# Altium integrated library WE-MAPI (rev22a).IntLib: 137 symbols (part 2 of 2)
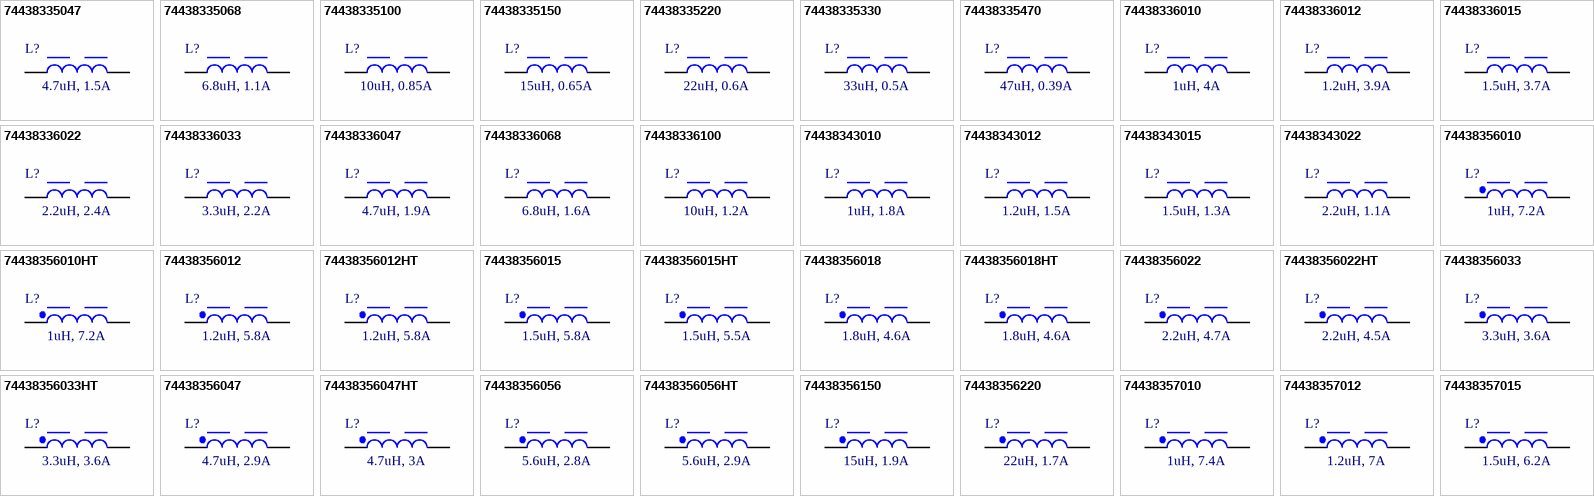
[diagram p4: symbols 74438335047 to 74438357015]

## 74438356033HT
designator L?, comment 3.3uH, 3.6A
WE-MAPI SMT Power Inductor, size 4020, 3.3uH, 3.6A; Manufacturer: Wurth Elektronik; Manufacturer Part Number: 74438356033HT; DC Resistance typ.: 45mOhm; DC Resistance max.: 51.8mOhm; Self Resonant Frequency: 25.5MHz; Saturation Current: 4.8A; ComponentLink1Description: Manufacturer; ComponentLink1URL: http://www.we-online.de; ComponentLink2Description: Datasheet; ComponentLink2URL: https://www.we-online.com/catalog/datasheet/74438356033HT.pdf; Mounting Technology: SMT; Operating Temperature: -55 to +150degC; Packaging: Tape and Reel; Size: 4020; Inductance: 3.3uH; Rated Current: 3.6A; Height: 2.1mm; Length: 4.1mm; Width: 4.1mm
footprint WE-MAPI_4020
pins: 1, 2

## 74438356047
designator L?, comment 4.7uH, 2.9A
WE-MAPI SMT Power Inductor, size 4020, 4.7uH, 2.9A; Manufacturer: Wurth Elektronik; Manufacturer Part Number: 74438356047; DC Resistance typ.: 63mOhm; DC Resistance max.: 76mOhm; Self Resonant Frequency: 22MHz; Saturation Current: 4.7A; ComponentLink1Description: Manufacturer; ComponentLink1URL: http://www.we-online.de; ComponentLink2Description: Datasheet; ComponentLink2URL: https://www.we-online.com/catalog/datasheet/74438356047.pdf; Mounting Technology: SMT; Operating Temperature: -40 to +125degC; Packaging: Tape and Reel; Size: 4020; Inductance: 4.7uH; Rated Current: 2.9A; Height: 2.1mm; Length: 4.1mm; Width: 4.1mm
footprint WE-MAPI_4020
pins: 1, 2

## 74438356047HT
designator L?, comment 4.7uH, 3A
WE-MAPI SMT Power Inductor, size 4020, 4.7uH, 3A; Manufacturer: Wurth Elektronik; Manufacturer Part Number: 74438356047HT; DC Resistance typ.: 65mOhm; DC Resistance max.: 74.8mOhm; Self Resonant Frequency: 18MHz; Saturation Current: 3.7A; ComponentLink1Description: Manufacturer; ComponentLink1URL: http://www.we-online.de; ComponentLink2Description: Datasheet; ComponentLink2URL: https://www.we-online.com/catalog/datasheet/74438356047HT.pdf; Mounting Technology: SMT; Operating Temperature: -55 to +150degC; Packaging: Tape and Reel; Size: 4020; Inductance: 4.7uH; Rated Current: 3A; Height: 2.1mm; Length: 4.1mm; Width: 4.1mm
footprint WE-MAPI_4020
pins: 1, 2

## 74438356056
designator L?, comment 5.6uH, 2.8A
WE-MAPI SMT Power Inductor, size 4020, 5.6uH, 2.8A; Manufacturer: Wurth Elektronik; Manufacturer Part Number: 74438356056; DC Resistance typ.: 68mOhm; DC Resistance max.: 81mOhm; Self Resonant Frequency: 20MHz; Saturation Current: 4.6A; ComponentLink1Description: Manufacturer; ComponentLink1URL: http://www.we-online.de; ComponentLink2Description: Datasheet; ComponentLink2URL: https://www.we-online.com/catalog/datasheet/74438356056.pdf; Mounting Technology: SMT; Operating Temperature: -40 to +125degC; Packaging: Tape and Reel; Size: 4020; Inductance: 5.6uH; Rated Current: 2.8A; Height: 2.1mm; Length: 4.1mm; Width: 4.1mm
footprint WE-MAPI_4020
pins: 1, 2

## 74438356056HT
designator L?, comment 5.6uH, 2.9A
WE-MAPI SMT Power Inductor, size 4020, 5.6uH, 2.9A; Manufacturer: Wurth Elektronik; Manufacturer Part Number: 74438356056HT; DC Resistance typ.: 70mOhm; DC Resistance max.: 80.5mOhm; Self Resonant Frequency: 17MHz; Saturation Current: 3.5A; ComponentLink1Description: Manufacturer; ComponentLink1URL: http://www.we-online.de; ComponentLink2Description: Datasheet; ComponentLink2URL: https://www.we-online.com/catalog/datasheet/74438356056HT.pdf; Mounting Technology: SMT; Operating Temperature: -55 to +150degC; Packaging: Tape and Reel; Size: 4020; Inductance: 5.6uH; Rated Current: 2.9A; Height: 2.1mm; Length: 4.1mm; Width: 4.1mm
footprint WE-MAPI_4020
pins: 1, 2

## 74438356150
designator L?, comment 15uH, 1.9A
WE-MAPI SMT Power Inductor, size 4020, 15uH, 1.9A; Manufacturer: Wurth Elektronik; Manufacturer Part Number: 74438356150; DC Resistance typ.: 200mOhm; DC Resistance max.: 230mOhm; Self Resonant Frequency: 14MHz; Saturation Current: 2.1A; ComponentLink1Description: Manufacturer; ComponentLink1URL: http://www.we-online.de; ComponentLink2Description: Datasheet; ComponentLink2URL: https://www.we-online.com/catalog/datasheet/74438356150.pdf; Mounting Technology: SMT; Operating Temperature: -40 to +125degC; Packaging: Tape and Reel; Size: 4020; Inductance: 15uH; Rated Current: 1.9A; Height: 2.1mm; Length: 4.1mm; Width: 4.1mm
footprint WE-MAPI_4020
pins: 1, 2

## 74438356220
designator L?, comment 22uH, 1.7A
WE-MAPI SMT Power Inductor, size 4020, 22uH, 1.7A; Manufacturer: Wurth Elektronik; Manufacturer Part Number: 74438356220; DC Resistance typ.: 250mOhm; DC Resistance max.: 280mOhm; Self Resonant Frequency: 11MHz; Saturation Current: 1.85A; ComponentLink1Description: Manufacturer; ComponentLink1URL: http://www.we-online.de; ComponentLink2Description: Datasheet; ComponentLink2URL: https://www.we-online.com/catalog/datasheet/74438356220.pdf; Mounting Technology: SMT; Operating Temperature: -40 to +125degC; Packaging: Tape and Reel; Size: 4020; Inductance: 22uH; Rated Current: 1.7A; Height: 2.1mm; Length: 4.1mm; Width: 4.1mm
footprint WE-MAPI_4020
pins: 1, 2

## 74438357010
designator L?, comment 1uH, 7.4A
WE-MAPI SMT Power Inductor, size 4030, 1uH, 7.4A; Manufacturer: Wurth Elektronik; Manufacturer Part Number: 74438357010; DC Resistance typ.: 11.6mOhm; DC Resistance max.: 13.5mOhm; Self Resonant Frequency: 59MHz; Saturation Current: 9.6A; ComponentLink1Description: Manufacturer; ComponentLink1URL: http://www.we-online.de; ComponentLink2Description: Datasheet; ComponentLink2URL: https://www.we-online.com/catalog/datasheet/74438357010.pdf; Mounting Technology: SMT; Operating Temperature: -40 to +125degC; Packaging: Tape and Reel; Size: 4030; Inductance: 1uH; Rated Current: 7.4A; Height: 3.1mm; Length: 4.1mm; Width: 4.1mm
footprint WE-MAPI_4030
pins: 1, 2

## 74438357012
designator L?, comment 1.2uH, 7A
WE-MAPI SMT Power Inductor, size 4030, 1.2uH, 7A; Manufacturer: Wurth Elektronik; Manufacturer Part Number: 74438357012; DC Resistance typ.: 13.4mOhm; DC Resistance max.: 15.5mOhm; Self Resonant Frequency: 51MHz; Saturation Current: 8.8A; ComponentLink1Description: Manufacturer; ComponentLink1URL: http://www.we-online.de; ComponentLink2Description: Datasheet; ComponentLink2URL: https://www.we-online.com/catalog/datasheet/74438357012.pdf; Mounting Technology: SMT; Operating Temperature: -40 to +125degC; Packaging: Tape and Reel; Size: 4030; Inductance: 1.2uH; Rated Current: 7A; Height: 3.1mm; Length: 4.1mm; Width: 4.1mm
footprint WE-MAPI_4030
pins: 1, 2

## 74438357015
designator L?, comment 1.5uH, 6.2A
WE-MAPI SMT Power Inductor, size 4030, 1.5uH, 6.2A; Manufacturer: Wurth Elektronik; Manufacturer Part Number: 74438357015; DC Resistance typ.: 17.1mOhm; DC Resistance max.: 20mOhm; Self Resonant Frequency: 48MHz; Saturation Current: 8.5A; ComponentLink1Description: Manufacturer; ComponentLink1URL: http://www.we-online.de; ComponentLink2Description: Datasheet; ComponentLink2URL: https://www.we-online.com/catalog/datasheet/74438357015.pdf; Mounting Technology: SMT; Operating Temperature: -40 to +125degC; Packaging: Tape and Reel; Size: 4030; Inductance: 1.5uH; Rated Current: 6.2A; Height: 3.1mm; Length: 4.1mm; Width: 4.1mm
footprint WE-MAPI_4030
pins: 1, 2

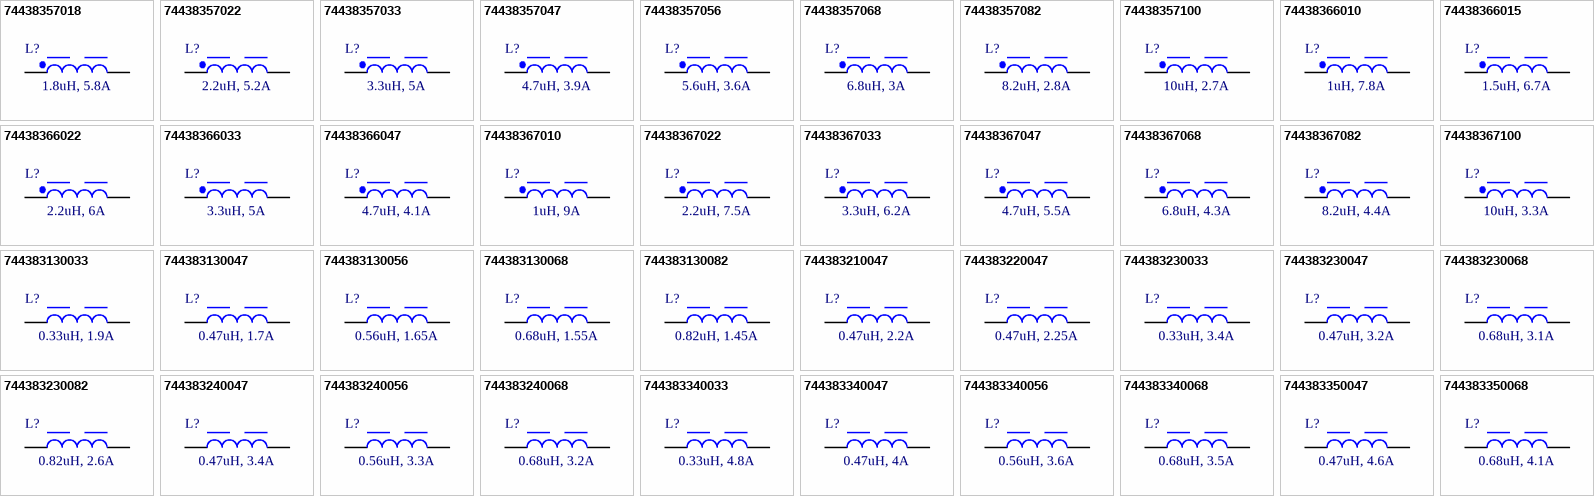
[diagram p2: symbols 74438357018 to 744383350068]

## 74438357018
designator L?, comment 1.8uH, 5.8A
WE-MAPI SMT Power Inductor, size 4030, 1.8uH, 5.8A; Manufacturer: Wurth Elektronik; Manufacturer Part Number: 74438357018; DC Resistance typ.: 18mOhm; DC Resistance max.: 21mOhm; Self Resonant Frequency: 42MHz; Saturation Current: 8A; ComponentLink1Description: Manufacturer; ComponentLink1URL: http://www.we-online.de; ComponentLink2Description: Datasheet; ComponentLink2URL: https://www.we-online.com/catalog/datasheet/74438357018.pdf; Mounting Technology: SMT; Operating Temperature: -40 to +125degC; Packaging: Tape and Reel; Size: 4030; Inductance: 1.8uH; Rated Current: 5.8A; Height: 3.1mm; Length: 4.1mm; Width: 4.1mm
footprint WE-MAPI_4030
pins: 1, 2

## 74438357022
designator L?, comment 2.2uH, 5.2A
WE-MAPI SMT Power Inductor, size 4030, 2.2uH, 5.2A; Manufacturer: Wurth Elektronik; Manufacturer Part Number: 74438357022; DC Resistance typ.: 22mOhm; DC Resistance max.: 26mOhm; Self Resonant Frequency: 35MHz; Saturation Current: 7A; ComponentLink1Description: Manufacturer; ComponentLink1URL: http://www.we-online.de; ComponentLink2Description: Datasheet; ComponentLink2URL: https://www.we-online.com/catalog/datasheet/74438357022.pdf; Mounting Technology: SMT; Operating Temperature: -40 to +125degC; Packaging: Tape and Reel; Size: 4030; Inductance: 2.2uH; Rated Current: 5.2A; Height: 3.1mm; Length: 4.1mm; Width: 4.1mm
footprint WE-MAPI_4030
pins: 1, 2

## 74438357033
designator L?, comment 3.3uH, 5A
WE-MAPI SMT Power Inductor, size 4030, 3.3uH, 5A; Manufacturer: Wurth Elektronik; Manufacturer Part Number: 74438357033; DC Resistance typ.: 29mOhm; DC Resistance max.: 33.5mOhm; Self Resonant Frequency: 26MHz; ComponentLink1Description: Manufacturer; ComponentLink1URL: http://www.we-online.de; ComponentLink2Description: Datasheet; ComponentLink2URL: https://www.we-online.com/catalog/datasheet/74438357033.pdf; Mounting Technology: SMT; Operating Temperature: -40 to +125degC; Packaging: Tape and Reel; Size: 4030; Inductance: 3.3uH; Rated Current: 5A; Saturation Current: 5A; Height: 3.1mm; Length: 4.1mm; Width: 4.1mm
footprint WE-MAPI_4030
pins: 1, 2

## 74438357047
designator L?, comment 4.7uH, 3.9A
WE-MAPI SMT Power Inductor, size 4030, 4.7uH, 3.9A; Manufacturer: Wurth Elektronik; Manufacturer Part Number: 74438357047; DC Resistance typ.: 39.9mOhm; DC Resistance max.: 44mOhm; Self Resonant Frequency: 24MHz; Saturation Current: 6.4A; ComponentLink1Description: Manufacturer; ComponentLink1URL: http://www.we-online.de; ComponentLink2Description: Datasheet; ComponentLink2URL: https://www.we-online.com/catalog/datasheet/74438357047.pdf; Mounting Technology: SMT; Operating Temperature: -40 to +125degC; Packaging: Tape and Reel; Size: 4030; Inductance: 4.7uH; Rated Current: 3.9A; Height: 3.1mm; Length: 4.1mm; Width: 4.1mm
footprint WE-MAPI_4030
pins: 1, 2

## 74438357056
designator L?, comment 5.6uH, 3.6A
WE-MAPI SMT Power Inductor, size 4030, 5.6uH, 3.6A; Manufacturer: Wurth Elektronik; Manufacturer Part Number: 74438357056; DC Resistance typ.: 46.5mOhm; DC Resistance max.: 51mOhm; Self Resonant Frequency: 21MHz; Saturation Current: 6A; ComponentLink1Description: Manufacturer; ComponentLink1URL: http://www.we-online.de; ComponentLink2Description: Datasheet; ComponentLink2URL: https://www.we-online.com/catalog/datasheet/74438357056.pdf; Mounting Technology: SMT; Operating Temperature: -40 to +125degC; Packaging: Tape and Reel; Size: 4030; Inductance: 5.6uH; Rated Current: 3.6A; Height: 3.1mm; Length: 4.1mm; Width: 4.1mm
footprint WE-MAPI_4030
pins: 1, 2

## 74438357068
designator L?, comment 6.8uH, 3A
WE-MAPI SMT Power Inductor, size 4030, 6.8uH, 3A; Manufacturer: Wurth Elektronik; Manufacturer Part Number: 74438357068; DC Resistance typ.: 69.4mOhm; DC Resistance max.: 74mOhm; Self Resonant Frequency: 19.5MHz; Saturation Current: 5.5A; ComponentLink1Description: Manufacturer; ComponentLink1URL: http://www.we-online.de; ComponentLink2Description: Datasheet; ComponentLink2URL: https://www.we-online.com/catalog/datasheet/74438357068.pdf; Mounting Technology: SMT; Operating Temperature: -40 to +125degC; Packaging: Tape and Reel; Size: 4030; Inductance: 6.8uH; Rated Current: 3A; Height: 3.1mm; Length: 4.1mm; Width: 4.1mm
footprint WE-MAPI_4030
pins: 1, 2

## 74438357082
designator L?, comment 8.2uH, 2.8A
WE-MAPI SMT Power Inductor, size 4030, 8.2uH, 2.8A; Manufacturer: Wurth Elektronik; Manufacturer Part Number: 74438357082; DC Resistance typ.: 81mOhm; DC Resistance max.: 86mOhm; Self Resonant Frequency: 17MHz; Saturation Current: 5.2A; ComponentLink1Description: Manufacturer; ComponentLink1URL: http://www.we-online.de; ComponentLink2Description: Datasheet; ComponentLink2URL: https://www.we-online.com/catalog/datasheet/74438357082.pdf; Mounting Technology: SMT; Operating Temperature: -40 to +125degC; Packaging: Tape and Reel; Size: 4030; Inductance: 8.2uH; Rated Current: 2.8A; Height: 3.1mm; Length: 4.1mm; Width: 4.1mm
footprint WE-MAPI_4030
pins: 1, 2

## 74438357100
designator L?, comment 10uH, 2.7A
WE-MAPI SMT Power Inductor, size 4030, 10uH, 2.7A; Manufacturer: Wurth Elektronik; Manufacturer Part Number: 74438357100; DC Resistance typ.: 100.8mOhm; DC Resistance max.: 110mOhm; Self Resonant Frequency: 15MHz; Saturation Current: 4.6A; ComponentLink1Description: Manufacturer; ComponentLink1URL: http://www.we-online.de; ComponentLink2Description: Datasheet; ComponentLink2URL: https://www.we-online.com/catalog/datasheet/74438357100.pdf; Mounting Technology: SMT; Operating Temperature: -40 to +125degC; Packaging: Tape and Reel; Size: 4030; Inductance: 10uH; Rated Current: 2.7A; Height: 3.1mm; Length: 4.1mm; Width: 4.1mm
footprint WE-MAPI_4030
pins: 1, 2

## 74438366010
designator L?, comment 1uH, 7.8A
WE-MAPI SMT Power Inductor, size 5020, 1uH, 7.8A; Manufacturer: Wurth Elektronik; Manufacturer Part Number: 74438366010; DC Resistance typ.: 11.4mOhm; DC Resistance max.: 13.1mOhm; Self Resonant Frequency: 50MHz; Saturation Current: 10A; ComponentLink1Description: Manufacturer; ComponentLink1URL: http://www.we-online.de; ComponentLink2Description: Datasheet; ComponentLink2URL: https://www.we-online.com/catalog/datasheet/74438366010.pdf; Mounting Technology: SMT; Operating Temperature: -40 to +125degC; Packaging: Tape and Reel; Size: 5020; Inductance: 1uH; Rated Current: 7.8A; Height: 2.1mm; Length: 5.4mm; Width: 5.4mm
footprint WE-MAPI_5020
pins: 1, 2

## 74438366015
designator L?, comment 1.5uH, 6.7A
WE-MAPI SMT Power Inductor, size 5020, 1.5uH, 6.7A; Manufacturer: Wurth Elektronik; Manufacturer Part Number: 74438366015; DC Resistance typ.: 18.5mOhm; DC Resistance max.: 21.3mOhm; Self Resonant Frequency: 35MHz; Saturation Current: 9.5A; ComponentLink1Description: Manufacturer; ComponentLink1URL: http://www.we-online.de; ComponentLink2Description: Datasheet; ComponentLink2URL: https://www.we-online.com/catalog/datasheet/74438366015.pdf; Mounting Technology: SMT; Operating Temperature: -40 to +125degC; Packaging: Tape and Reel; Size: 5020; Inductance: 1.5uH; Rated Current: 6.7A; Height: 2.1mm; Length: 5.4mm; Width: 5.4mm
footprint WE-MAPI_5020
pins: 1, 2

## 74438366022
designator L?, comment 2.2uH, 6A
WE-MAPI SMT Power Inductor, size 5020, 2.2uH, 6A; Manufacturer: Wurth Elektronik; Manufacturer Part Number: 74438366022; DC Resistance typ.: 23.7mOhm; DC Resistance max.: 27.3mOhm; Self Resonant Frequency: 31.5MHz; Saturation Current: 9A; ComponentLink1Description: Manufacturer; ComponentLink1URL: http://www.we-online.de; ComponentLink2Description: Datasheet; ComponentLink2URL: https://www.we-online.com/catalog/datasheet/74438366022.pdf; Mounting Technology: SMT; Operating Temperature: -40 to +125degC; Packaging: Tape and Reel; Size: 5020; Inductance: 2.2uH; Rated Current: 6A; Height: 2.1mm; Length: 5.4mm; Width: 5.4mm
footprint WE-MAPI_5020
pins: 1, 2

## 74438366033
designator L?, comment 3.3uH, 5A
WE-MAPI SMT Power Inductor, size 5020, 3.3uH, 5A; Manufacturer: Wurth Elektronik; Manufacturer Part Number: 74438366033; DC Resistance typ.: 33.4mOhm; DC Resistance max.: 38.4mOhm; Self Resonant Frequency: 23MHz; Saturation Current: 7A; ComponentLink1Description: Manufacturer; ComponentLink1URL: http://www.we-online.de; ComponentLink2Description: Datasheet; ComponentLink2URL: https://www.we-online.com/catalog/datasheet/74438366033.pdf; Mounting Technology: SMT; Operating Temperature: -40 to +125degC; Packaging: Tape and Reel; Size: 5020; Inductance: 3.3uH; Rated Current: 5A; Height: 2.1mm; Length: 5.4mm; Width: 5.4mm
footprint WE-MAPI_5020
pins: 1, 2

## 74438366047
designator L?, comment 4.7uH, 4.1A
WE-MAPI SMT Power Inductor, size 5020, 4.7uH, 4.1A; Manufacturer: Wurth Elektronik; Manufacturer Part Number: 74438366047; DC Resistance typ.: 54.8mOhm; DC Resistance max.: 63mOhm; Self Resonant Frequency: 20MHz; Saturation Current: 5.5A; ComponentLink1Description: Manufacturer; ComponentLink1URL: http://www.we-online.de; ComponentLink2Description: Datasheet; ComponentLink2URL: https://www.we-online.com/catalog/datasheet/74438366047.pdf; Mounting Technology: SMT; Operating Temperature: -40 to +125degC; Packaging: Tape and Reel; Size: 5020; Inductance: 4.7uH; Rated Current: 4.1A; Height: 2.1mm; Length: 5.4mm; Width: 5.4mm
footprint WE-MAPI_5020
pins: 1, 2

## 74438367010
designator L?, comment 1uH, 9A
WE-MAPI SMT Power Inductor, size 5030, 1uH, 9A; Manufacturer: Wurth Elektronik; Manufacturer Part Number: 74438367010; DC Resistance typ.: 10mOhm; DC Resistance max.: 11.5mOhm; Self Resonant Frequency: 44.5MHz; Saturation Current: 9.6A; ComponentLink1Description: Manufacturer; ComponentLink1URL: http://www.we-online.de; ComponentLink2Description: Datasheet; ComponentLink2URL: https://www.we-online.com/catalog/datasheet/74438367010.pdf; Mounting Technology: SMT; Operating Temperature: -40 to +125degC; Packaging: Tape and Reel; Size: 5030; Inductance: 1uH; Rated Current: 9A; Height: 3.1mm; Length: 5.4mm; Width: 5.4mm
footprint WE-MAPI_5030
pins: 1, 2

## 74438367022
designator L?, comment 2.2uH, 7.5A
WE-MAPI SMT Power Inductor, size 5030, 2.2uH, 7.5A; Manufacturer: Wurth Elektronik; Manufacturer Part Number: 74438367022; DC Resistance typ.: 14mOhm; DC Resistance max.: 16.1mOhm; Self Resonant Frequency: 28MHz; ComponentLink1Description: Manufacturer; ComponentLink1URL: http://www.we-online.de; ComponentLink2Description: Datasheet; ComponentLink2URL: https://www.we-online.com/catalog/datasheet/74438367022.pdf; Mounting Technology: SMT; Operating Temperature: -40 to +125degC; Packaging: Tape and Reel; Size: 5030; Inductance: 2.2uH; Rated Current: 7.5A; Saturation Current: 7.5A; Height: 3.1mm; Length: 5.4mm; Width: 5.4mm
footprint WE-MAPI_5030
pins: 1, 2

## 74438367033
designator L?, comment 3.3uH, 6.2A
WE-MAPI SMT Power Inductor, size 5030, 3.3uH, 6.2A; Manufacturer: Wurth Elektronik; Manufacturer Part Number: 74438367033; DC Resistance typ.: 20mOhm; DC Resistance max.: 23mOhm; Self Resonant Frequency: 22MHz; Saturation Current: 7.3A; ComponentLink1Description: Manufacturer; ComponentLink1URL: http://www.we-online.de; ComponentLink2Description: Datasheet; ComponentLink2URL: https://www.we-online.com/catalog/datasheet/74438367033.pdf; Mounting Technology: SMT; Operating Temperature: -40 to +125degC; Packaging: Tape and Reel; Size: 5030; Inductance: 3.3uH; Rated Current: 6.2A; Height: 3.1mm; Length: 5.4mm; Width: 5.4mm
footprint WE-MAPI_5030
pins: 1, 2

## 74438367047
designator L?, comment 4.7uH, 5.5A
WE-MAPI SMT Power Inductor, size 5030, 4.7uH, 5.5A; Manufacturer: Wurth Elektronik; Manufacturer Part Number: 74438367047; DC Resistance typ.: 30mOhm; DC Resistance max.: 34.5mOhm; Self Resonant Frequency: 18.5MHz; Saturation Current: 5.4A; ComponentLink1Description: Manufacturer; ComponentLink1URL: http://www.we-online.de; ComponentLink2Description: Datasheet; ComponentLink2URL: https://www.we-online.com/catalog/datasheet/74438367047.pdf; Mounting Technology: SMT; Operating Temperature: -40 to +125degC; Packaging: Tape and Reel; Size: 5030; Inductance: 4.7uH; Rated Current: 5.5A; Height: 3.1mm; Length: 5.4mm; Width: 5.4mm
footprint WE-MAPI_5030
pins: 1, 2

## 74438367068
designator L?, comment 6.8uH, 4.3A
WE-MAPI SMT Power Inductor, size 5030, 6.8uH, 4.3A; Manufacturer: Wurth Elektronik; Manufacturer Part Number: 74438367068; DC Resistance typ.: 42mOhm; DC Resistance max.: 48.3mOhm; Self Resonant Frequency: 15.5MHz; Saturation Current: 5.7A; ComponentLink1Description: Manufacturer; ComponentLink1URL: http://www.we-online.de; ComponentLink2Description: Datasheet; ComponentLink2URL: https://www.we-online.com/catalog/datasheet/74438367068.pdf; Mounting Technology: SMT; Operating Temperature: -40 to +125degC; Packaging: Tape and Reel; Size: 5030; Inductance: 6.8uH; Rated Current: 4.3A; Height: 3.1mm; Length: 5.4mm; Width: 5.4mm
footprint WE-MAPI_5030
pins: 1, 2

## 74438367082
designator L?, comment 8.2uH, 4.4A
WE-MAPI SMT Power Inductor, size 5030, 8.2uH, 4.4A; Manufacturer: Wurth Elektronik; Manufacturer Part Number: 74438367082; DC Resistance typ.: 50mOhm; DC Resistance max.: 57.5mOhm; Self Resonant Frequency: 13MHz; Saturation Current: 5A; ComponentLink1Description: Manufacturer; ComponentLink1URL: http://www.we-online.de; ComponentLink2Description: Datasheet; ComponentLink2URL: https://www.we-online.com/catalog/datasheet/74438367082.pdf; Mounting Technology: SMT; Operating Temperature: -40 to +125degC; Packaging: Tape and Reel; Size: 5030; Inductance: 8.2uH; Rated Current: 4.4A; Height: 3.1mm; Length: 5.4mm; Width: 5.4mm
footprint WE-MAPI_5030
pins: 1, 2

## 74438367100
designator L?, comment 10uH, 3.3A
WE-MAPI SMT Power Inductor, size 5030, 10uH, 3.3A; Manufacturer: Wurth Elektronik; Manufacturer Part Number: 74438367100; DC Resistance typ.: 61mOhm; DC Resistance max.: 70.2mOhm; Self Resonant Frequency: 13MHz; Saturation Current: 4.8A; ComponentLink1Description: Manufacturer; ComponentLink1URL: http://www.we-online.de; ComponentLink2Description: Datasheet; ComponentLink2URL: https://www.we-online.com/catalog/datasheet/74438367100.pdf; Mounting Technology: SMT; Operating Temperature: -40 to +125degC; Packaging: Tape and Reel; Size: 5030; Inductance: 10uH; Rated Current: 3.3A; Height: 3.1mm; Length: 5.4mm; Width: 5.4mm
footprint WE-MAPI_5030
pins: 1, 2

## 744383130033
designator L?, comment 0.33uH, 1.9A
WE-MAPI SMT Power Inductor, size 1610, 0.33uH, 1.9A; Manufacturer: Wurth Elektronik; Manufacturer Part Number: 744383130033; DC Resistance typ.: 65mOhm; DC Resistance max.: 84mOhm; Self Resonant Frequency: 215MHz; Saturation Current: 4.9A; ComponentLink1Description: Manufacturer; ComponentLink1URL: http://www.we-online.de; ComponentLink2Description: Datasheet; ComponentLink2URL: https://www.we-online.com/catalog/datasheet/744383130033.pdf; Mounting Technology: SMT; Operating Temperature: -40 to +125degC; Packaging: Tape and Reel; Size: 1610; Inductance: 0.33uH; Rated Current: 1.9A; Height: 1mm; Length: 1.6mm; Width: 1.6mm
footprint WE-MAPI_1610
pins: 1, 2

## 744383130047
designator L?, comment 0.47uH, 1.7A
WE-MAPI SMT Power Inductor, size 1610, 0.47uH, 1.7A; Manufacturer: Wurth Elektronik; Manufacturer Part Number: 744383130047; DC Resistance typ.: 77mOhm; DC Resistance max.: 101mOhm; Self Resonant Frequency: 200MHz; Saturation Current: 4.5A; ComponentLink1Description: Manufacturer; ComponentLink1URL: http://www.we-online.de; ComponentLink2Description: Datasheet; ComponentLink2URL: https://www.we-online.com/catalog/datasheet/744383130047.pdf; Mounting Technology: SMT; Operating Temperature: -40 to +125degC; Packaging: Tape and Reel; Size: 1610; Inductance: 0.47uH; Rated Current: 1.7A; Height: 1mm; Length: 1.6mm; Width: 1.6mm
footprint WE-MAPI_1610
pins: 1, 2

## 744383130056
designator L?, comment 0.56uH, 1.65A
WE-MAPI SMT Power Inductor, size 1610, 0.56uH, 1.65A; Manufacturer: Wurth Elektronik; Manufacturer Part Number: 744383130056; DC Resistance typ.: 90mOhm; DC Resistance max.: 113mOhm; Self Resonant Frequency: 150MHz; Saturation Current: 4A; ComponentLink1Description: Manufacturer; ComponentLink1URL: http://www.we-online.de; ComponentLink2Description: Datasheet; ComponentLink2URL: https://www.we-online.com/catalog/datasheet/744383130056.pdf; Mounting Technology: SMT; Operating Temperature: -40 to +125degC; Packaging: Tape and Reel; Size: 1610; Inductance: 0.56uH; Rated Current: 1.65A; Height: 1mm; Length: 1.6mm; Width: 1.6mm
footprint WE-MAPI_1610
pins: 1, 2

## 744383130068
designator L?, comment 0.68uH, 1.55A
WE-MAPI SMT Power Inductor, size 1610, 0.68uH, 1.55A; Manufacturer: Wurth Elektronik; Manufacturer Part Number: 744383130068; DC Resistance typ.: 101mOhm; DC Resistance max.: 126mOhm; Self Resonant Frequency: 135MHz; Saturation Current: 3.8A; ComponentLink1Description: Manufacturer; ComponentLink1URL: http://www.we-online.de; ComponentLink2Description: Datasheet; ComponentLink2URL: https://www.we-online.com/catalog/datasheet/744383130068.pdf; Mounting Technology: SMT; Operating Temperature: -40 to +125degC; Packaging: Tape and Reel; Size: 1610; Inductance: 0.68uH; Rated Current: 1.55A; Height: 1mm; Length: 1.6mm; Width: 1.6mm
footprint WE-MAPI_1610
pins: 1, 2

## 744383130082
designator L?, comment 0.82uH, 1.45A
WE-MAPI SMT Power Inductor, size 1610, 0.82uH, 1.45A; Manufacturer: Wurth Elektronik; Manufacturer Part Number: 744383130082; DC Resistance typ.: 115mOhm; DC Resistance max.: 144mOhm; Self Resonant Frequency: 115MHz; Saturation Current: 3.6A; ComponentLink1Description: Manufacturer; ComponentLink1URL: http://www.we-online.de; ComponentLink2Description: Datasheet; ComponentLink2URL: https://www.we-online.com/catalog/datasheet/744383130082.pdf; Mounting Technology: SMT; Operating Temperature: -40 to +125degC; Packaging: Tape and Reel; Size: 1610; Inductance: 0.82uH; Rated Current: 1.45A; Height: 1mm; Length: 1.6mm; Width: 1.6mm
footprint WE-MAPI_1610
pins: 1, 2

## 744383210047
designator L?, comment 0.47uH, 2.2A
WE-MAPI SMT Power Inductor, size 2506, 0.47uH, 2.2A; Manufacturer: Wurth Elektronik; Manufacturer Part Number: 744383210047; DC Resistance typ.: 76mOhm; DC Resistance max.: 95mOhm; Self Resonant Frequency: 165MHz; Saturation Current: 3.7A; ComponentLink1Description: Manufacturer; ComponentLink1URL: http://www.we-online.de; ComponentLink2Description: Datasheet; ComponentLink2URL: https://www.we-online.com/catalog/datasheet/744383210047.pdf; Mounting Technology: SMT; Operating Temperature: -40 to +125degC; Packaging: Tape and Reel; Size: 2506; Inductance: 0.47uH; Rated Current: 2.2A; Height: 0.6mm; Length: 2.5mm; Width: 2mm
footprint WE-MAPI_2506
pins: 1, 2

## 744383220047
designator L?, comment 0.47uH, 2.25A
WE-MAPI SMT Power Inductor, size 2508, 0.47uH, 2.25A; Manufacturer: Wurth Elektronik; Manufacturer Part Number: 744383220047; DC Resistance typ.: 70mOhm; DC Resistance max.: 87mOhm; Self Resonant Frequency: 160MHz; Saturation Current: 4.4A; ComponentLink1Description: Manufacturer; ComponentLink1URL: http://www.we-online.de; ComponentLink2Description: Datasheet; ComponentLink2URL: https://www.we-online.com/catalog/datasheet/744383220047.pdf; Mounting Technology: SMT; Operating Temperature: -40 to +125degC; Packaging: Tape and Reel; Size: 2508; Inductance: 0.47uH; Rated Current: 2.25A; Height: 0.8mm; Length: 2.5mm; Width: 2mm
footprint WE-MAPI_2508
pins: 1, 2

## 744383230033
designator L?, comment 0.33uH, 3.4A
WE-MAPI SMT Power Inductor, size 2510, 0.33uH, 3.4A; Manufacturer: Wurth Elektronik; Manufacturer Part Number: 744383230033; DC Resistance typ.: 29mOhm; DC Resistance max.: 38mOhm; Self Resonant Frequency: 180MHz; Saturation Current: 6.2A; ComponentLink1Description: Manufacturer; ComponentLink1URL: http://www.we-online.de; ComponentLink2Description: Datasheet; ComponentLink2URL: https://www.we-online.com/catalog/datasheet/744383230033.pdf; Mounting Technology: SMT; Operating Temperature: -40 to +125degC; Packaging: Tape and Reel; Size: 2510; Inductance: 0.33uH; Rated Current: 3.4A; Height: 1mm; Length: 2.5mm; Width: 2mm
footprint WE-MAPI_2510
pins: 1, 2

## 744383230047
designator L?, comment 0.47uH, 3.2A
WE-MAPI SMT Power Inductor, size 2510, 0.47uH, 3.2A; Manufacturer: Wurth Elektronik; Manufacturer Part Number: 744383230047; DC Resistance typ.: 37mOhm; DC Resistance max.: 48mOhm; Self Resonant Frequency: 170MHz; Saturation Current: 5.5A; ComponentLink1Description: Manufacturer; ComponentLink1URL: http://www.we-online.de; ComponentLink2Description: Datasheet; ComponentLink2URL: https://www.we-online.com/catalog/datasheet/744383230047.pdf; Mounting Technology: SMT; Operating Temperature: -40 to +125degC; Packaging: Tape and Reel; Size: 2510; Inductance: 0.47uH; Rated Current: 3.2A; Height: 1mm; Length: 2.5mm; Width: 2mm
footprint WE-MAPI_2510
pins: 1, 2

## 744383230068
designator L?, comment 0.68uH, 3.1A
WE-MAPI SMT Power Inductor, size 2510, 0.68uH, 3.1A; Manufacturer: Wurth Elektronik; Manufacturer Part Number: 744383230068; DC Resistance typ.: 46mOhm; DC Resistance max.: 60mOhm; Self Resonant Frequency: 135MHz; Saturation Current: 4.7A; ComponentLink1Description: Manufacturer; ComponentLink1URL: http://www.we-online.de; ComponentLink2Description: Datasheet; ComponentLink2URL: https://www.we-online.com/catalog/datasheet/744383230068.pdf; Mounting Technology: SMT; Operating Temperature: -40 to +125degC; Packaging: Tape and Reel; Size: 2510; Inductance: 0.68uH; Rated Current: 3.1A; Height: 1mm; Length: 2.5mm; Width: 2mm
footprint WE-MAPI_2510
pins: 1, 2

## 744383230082
designator L?, comment 0.82uH, 2.6A
WE-MAPI SMT Power Inductor, size 2510, 0.82uH, 2.6A; Manufacturer: Wurth Elektronik; Manufacturer Part Number: 744383230082; DC Resistance typ.: 53mOhm; DC Resistance max.: 69mOhm; Self Resonant Frequency: 105MHz; Saturation Current: 4.25A; ComponentLink1Description: Manufacturer; ComponentLink1URL: http://www.we-online.de; ComponentLink2Description: Datasheet; ComponentLink2URL: https://www.we-online.com/catalog/datasheet/744383230082.pdf; Mounting Technology: SMT; Operating Temperature: -40 to +125degC; Packaging: Tape and Reel; Size: 2510; Inductance: 0.82uH; Rated Current: 2.6A; Height: 1mm; Length: 2.5mm; Width: 2mm
footprint WE-MAPI_2510
pins: 1, 2

## 744383240047
designator L?, comment 0.47uH, 3.4A
WE-MAPI SMT Power Inductor, size 2512, 0.47uH, 3.4A; Manufacturer: Wurth Elektronik; Manufacturer Part Number: 744383240047; DC Resistance typ.: 30mOhm; DC Resistance max.: 40mOhm; Self Resonant Frequency: 145MHz; Saturation Current: 6.25A; ComponentLink1Description: Manufacturer; ComponentLink1URL: http://www.we-online.de; ComponentLink2Description: Datasheet; ComponentLink2URL: https://www.we-online.com/catalog/datasheet/744383240047.pdf; Mounting Technology: SMT; Operating Temperature: -40 to +125degC; Packaging: Tape and Reel; Size: 2512; Inductance: 0.47uH; Rated Current: 3.4A; Height: 1.2mm; Length: 2.5mm; Width: 2mm
footprint WE-MAPI_2512
pins: 1, 2

## 744383240056
designator L?, comment 0.56uH, 3.3A
WE-MAPI SMT Power Inductor, size 2512, 0.56uH, 3.3A; Manufacturer: Wurth Elektronik; Manufacturer Part Number: 744383240056; DC Resistance typ.: 37mOhm; DC Resistance max.: 49mOhm; Self Resonant Frequency: 120MHz; Saturation Current: 6A; ComponentLink1Description: Manufacturer; ComponentLink1URL: http://www.we-online.de; ComponentLink2Description: Datasheet; ComponentLink2URL: https://www.we-online.com/catalog/datasheet/744383240056.pdf; Mounting Technology: SMT; Operating Temperature: -40 to +125degC; Packaging: Tape and Reel; Size: 2512; Inductance: 0.56uH; Rated Current: 3.3A; Height: 1.2mm; Length: 2.5mm; Width: 2mm
footprint WE-MAPI_2512
pins: 1, 2

## 744383240068
designator L?, comment 0.68uH, 3.2A
WE-MAPI SMT Power Inductor, size 2512, 0.68uH, 3.2A; Manufacturer: Wurth Elektronik; Manufacturer Part Number: 744383240068; DC Resistance typ.: 45mOhm; DC Resistance max.: 59mOhm; Self Resonant Frequency: 102MHz; Saturation Current: 5.85A; ComponentLink1Description: Manufacturer; ComponentLink1URL: http://www.we-online.de; ComponentLink2Description: Datasheet; ComponentLink2URL: https://www.we-online.com/catalog/datasheet/744383240068.pdf; Mounting Technology: SMT; Operating Temperature: -40 to +125degC; Packaging: Tape and Reel; Size: 2512; Inductance: 0.68uH; Rated Current: 3.2A; Height: 1.2mm; Length: 2.5mm; Width: 2mm
footprint WE-MAPI_2512
pins: 1, 2

## 744383340033
designator L?, comment 0.33uH, 4.8A
WE-MAPI SMT Power Inductor, size 3012, 0.33uH, 4.8A; Manufacturer: Wurth Elektronik; Manufacturer Part Number: 744383340033; DC Resistance typ.: 19mOhm; DC Resistance max.: 22.8mOhm; Self Resonant Frequency: 140MHz; Saturation Current: 11.1A; ComponentLink1Description: Manufacturer; ComponentLink1URL: http://www.we-online.de; ComponentLink2Description: Datasheet; ComponentLink2URL: https://www.we-online.com/catalog/datasheet/744383340033.pdf; Mounting Technology: SMT; Operating Temperature: -40 to +125degC; Packaging: Tape and Reel; Size: 3012; Inductance: 0.33uH; Rated Current: 4.8A; Height: 1.2mm; Length: 3mm; Width: 3mm
footprint WE-MAPI_3012
pins: 1, 2

## 744383340047
designator L?, comment 0.47uH, 4A
WE-MAPI SMT Power Inductor, size 3012, 0.47uH, 4A; Manufacturer: Wurth Elektronik; Manufacturer Part Number: 744383340047; DC Resistance typ.: 22mOhm; DC Resistance max.: 26.4mOhm; Self Resonant Frequency: 110MHz; Saturation Current: 9.4A; ComponentLink1Description: Manufacturer; ComponentLink1URL: http://www.we-online.de; ComponentLink2Description: Datasheet; ComponentLink2URL: https://www.we-online.com/catalog/datasheet/744383340047.pdf; Mounting Technology: SMT; Operating Temperature: -40 to +125degC; Packaging: Tape and Reel; Size: 3012; Inductance: 0.47uH; Rated Current: 4A; Height: 1.2mm; Length: 3mm; Width: 3mm
footprint WE-MAPI_3012
pins: 1, 2

## 744383340056
designator L?, comment 0.56uH, 3.6A
WE-MAPI SMT Power Inductor, size 3012, 0.56uH, 3.6A; Manufacturer: Wurth Elektronik; Manufacturer Part Number: 744383340056; DC Resistance typ.: 29mOhm; DC Resistance max.: 34.8mOhm; Self Resonant Frequency: 108MHz; Saturation Current: 8.5A; ComponentLink1Description: Manufacturer; ComponentLink1URL: http://www.we-online.de; ComponentLink2Description: Datasheet; ComponentLink2URL: https://www.we-online.com/catalog/datasheet/744383340056.pdf; Mounting Technology: SMT; Operating Temperature: -40 to +125degC; Packaging: Tape and Reel; Size: 3012; Inductance: 0.56uH; Rated Current: 3.6A; Height: 1.2mm; Length: 3mm; Width: 3mm
footprint WE-MAPI_3012
pins: 1, 2

## 744383340068
designator L?, comment 0.68uH, 3.5A
WE-MAPI SMT Power Inductor, size 3012, 0.68uH, 3.5A; Manufacturer: Wurth Elektronik; Manufacturer Part Number: 744383340068; DC Resistance typ.: 36mOhm; DC Resistance max.: 43.2mOhm; Self Resonant Frequency: 100MHz; Saturation Current: 7.7A; ComponentLink1Description: Manufacturer; ComponentLink1URL: http://www.we-online.de; ComponentLink2Description: Datasheet; ComponentLink2URL: https://www.we-online.com/catalog/datasheet/744383340068.pdf; Mounting Technology: SMT; Operating Temperature: -40 to +125degC; Packaging: Tape and Reel; Size: 3012; Inductance: 0.68uH; Rated Current: 3.5A; Height: 1.2mm; Length: 3mm; Width: 3mm
footprint WE-MAPI_3012
pins: 1, 2

## 744383350047
designator L?, comment 0.47uH, 4.6A
WE-MAPI SMT Power Inductor, size 3015, 0.47uH, 4.6A; Manufacturer: Wurth Elektronik; Manufacturer Part Number: 744383350047; DC Resistance typ.: 20mOhm; DC Resistance max.: 23mOhm; Self Resonant Frequency: 105MHz; Saturation Current: 5.8A; ComponentLink1Description: Manufacturer; ComponentLink1URL: http://www.we-online.de; ComponentLink2Description: Datasheet; ComponentLink2URL: https://www.we-online.com/catalog/datasheet/744383350047.pdf; Mounting Technology: SMT; Operating Temperature: -40 to +125degC; Packaging: Tape and Reel; Size: 3015; Inductance: 0.47uH; Rated Current: 4.6A; Height: 1.5mm; Length: 3mm; Width: 3mm
footprint WE-MAPI_3015
pins: 1, 2

## 744383350068
designator L?, comment 0.68uH, 4.1A
WE-MAPI SMT Power Inductor, size 3015, 0.68uH, 4.1A; Manufacturer: Wurth Elektronik; Manufacturer Part Number: 744383350068; DC Resistance typ.: 25mOhm; DC Resistance max.: 30mOhm; Self Resonant Frequency: 100MHz; Saturation Current: 8.1A; ComponentLink1Description: Manufacturer; ComponentLink1URL: http://www.we-online.de; ComponentLink2Description: Datasheet; ComponentLink2URL: https://www.we-online.com/catalog/datasheet/744383350068.pdf; Mounting Technology: SMT; Operating Temperature: -40 to +125degC; Packaging: Tape and Reel; Size: 3015; Inductance: 0.68uH; Rated Current: 4.1A; Height: 1.5mm; Length: 3mm; Width: 3mm
footprint WE-MAPI_3015
pins: 1, 2

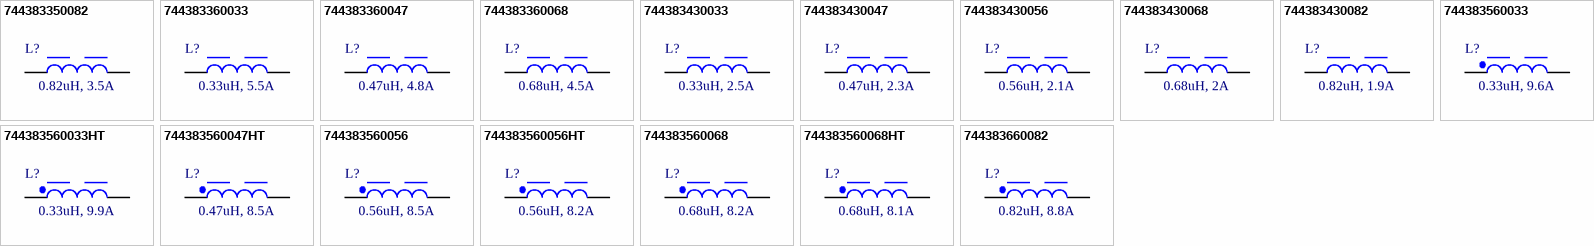
[diagram p3: symbols 744383350082 to 744383660082]

## 744383350082
designator L?, comment 0.82uH, 3.5A
WE-MAPI SMT Power Inductor, size 3015, 0.82uH, 3.5A; Manufacturer: Wurth Elektronik; Manufacturer Part Number: 744383350082; DC Resistance typ.: 30mOhm; DC Resistance max.: 35mOhm; Self Resonant Frequency: 85MHz; Saturation Current: 7A; ComponentLink1Description: Manufacturer; ComponentLink1URL: http://www.we-online.de; ComponentLink2Description: Datasheet; ComponentLink2URL: https://www.we-online.com/catalog/datasheet/744383350082.pdf; Mounting Technology: SMT; Operating Temperature: -40 to +125degC; Packaging: Tape and Reel; Size: 3015; Inductance: 0.82uH; Rated Current: 3.5A; Height: 1.5mm; Length: 3mm; Width: 3mm
footprint WE-MAPI_3015
pins: 1, 2

## 744383360033
designator L?, comment 0.33uH, 5.5A
WE-MAPI SMT Power Inductor, size 3020, 0.33uH, 5.5A; Manufacturer: Wurth Elektronik; Manufacturer Part Number: 744383360033; DC Resistance typ.: 14mOhm; DC Resistance max.: 17mOhm; Self Resonant Frequency: 140MHz; Saturation Current: 8.3A; ComponentLink1Description: Manufacturer; ComponentLink1URL: http://www.we-online.de; ComponentLink2Description: Datasheet; ComponentLink2URL: https://www.we-online.com/catalog/datasheet/744383360033.pdf; Mounting Technology: SMT; Operating Temperature: -40 to +125degC; Packaging: Tape and Reel; Size: 3020; Inductance: 0.33uH; Rated Current: 5.5A; Height: 2mm; Length: 3mm; Width: 3mm
footprint WE-MAPI_3020
pins: 1, 2

## 744383360047
designator L?, comment 0.47uH, 4.8A
WE-MAPI SMT Power Inductor, size 3020, 0.47uH, 4.8A; Manufacturer: Wurth Elektronik; Manufacturer Part Number: 744383360047; DC Resistance typ.: 18mOhm; DC Resistance max.: 22mOhm; Self Resonant Frequency: 99MHz; Saturation Current: 8A; ComponentLink1Description: Manufacturer; ComponentLink1URL: http://www.we-online.de; ComponentLink2Description: Datasheet; ComponentLink2URL: https://www.we-online.com/catalog/datasheet/744383360047.pdf; Mounting Technology: SMT; Operating Temperature: -40 to +125degC; Packaging: Tape and Reel; Size: 3020; Inductance: 0.47uH; Rated Current: 4.8A; Height: 2mm; Length: 3mm; Width: 3mm
footprint WE-MAPI_3020
pins: 1, 2

## 744383360068
designator L?, comment 0.68uH, 4.5A
WE-MAPI SMT Power Inductor, size 3020, 0.68uH, 4.5A; Manufacturer: Wurth Elektronik; Manufacturer Part Number: 744383360068; DC Resistance typ.: 22mOhm; DC Resistance max.: 27mOhm; Self Resonant Frequency: 85MHz; Saturation Current: 6.2A; ComponentLink1Description: Manufacturer; ComponentLink1URL: http://www.we-online.de; ComponentLink2Description: Datasheet; ComponentLink2URL: https://www.we-online.com/catalog/datasheet/744383360068.pdf; Mounting Technology: SMT; Operating Temperature: -40 to +125degC; Packaging: Tape and Reel; Size: 3020; Inductance: 0.68uH; Rated Current: 4.5A; Height: 2mm; Length: 3mm; Width: 3mm
footprint WE-MAPI_3020
pins: 1, 2

## 744383430033
designator L?, comment 0.33uH, 2.5A
WE-MAPI SMT Power Inductor, size 2010, 0.33uH, 2.5A; Manufacturer: Wurth Elektronik; Manufacturer Part Number: 744383430033; DC Resistance typ.: 40mOhm; DC Resistance max.: 53mOhm; Self Resonant Frequency: 205MHz; Saturation Current: 5.9A; ComponentLink1Description: Manufacturer; ComponentLink1URL: http://www.we-online.de; ComponentLink2Description: Datasheet; ComponentLink2URL: https://www.we-online.com/catalog/datasheet/744383430033.pdf; Mounting Technology: SMT; Operating Temperature: -40 to +125degC; Packaging: Tape and Reel; Size: 2010; Inductance: 0.33uH; Rated Current: 2.5A; Height: 1mm; Length: 2mm; Width: 1.6mm
footprint WE-MAPI_2010
pins: 1, 2

## 744383430047
designator L?, comment 0.47uH, 2.3A
WE-MAPI SMT Power Inductor, size 2010, 0.47uH, 2.3A; Manufacturer: Wurth Elektronik; Manufacturer Part Number: 744383430047; DC Resistance typ.: 49mOhm; DC Resistance max.: 63mOhm; Self Resonant Frequency: 175MHz; Saturation Current: 5.25A; ComponentLink1Description: Manufacturer; ComponentLink1URL: http://www.we-online.de; ComponentLink2Description: Datasheet; ComponentLink2URL: https://www.we-online.com/catalog/datasheet/744383430047.pdf; Mounting Technology: SMT; Operating Temperature: -40 to +125degC; Packaging: Tape and Reel; Size: 2010; Inductance: 0.47uH; Rated Current: 2.3A; Height: 1mm; Length: 2mm; Width: 1.6mm
footprint WE-MAPI_2010
pins: 1, 2

## 744383430056
designator L?, comment 0.56uH, 2.1A
WE-MAPI SMT Power Inductor, size 2010, 0.56uH, 2.1A; Manufacturer: Wurth Elektronik; Manufacturer Part Number: 744383430056; DC Resistance typ.: 56mOhm; DC Resistance max.: 73mOhm; Self Resonant Frequency: 135MHz; Saturation Current: 5A; ComponentLink1Description: Manufacturer; ComponentLink1URL: http://www.we-online.de; ComponentLink2Description: Datasheet; ComponentLink2URL: https://www.we-online.com/catalog/datasheet/744383430056.pdf; Mounting Technology: SMT; Operating Temperature: -40 to +125degC; Packaging: Tape and Reel; Size: 2010; Inductance: 0.56uH; Rated Current: 2.1A; Height: 1mm; Length: 2mm; Width: 1.6mm
footprint WE-MAPI_2010
pins: 1, 2

## 744383430068
designator L?, comment 0.68uH, 2A
WE-MAPI SMT Power Inductor, size 2010, 0.68uH, 2A; Manufacturer: Wurth Elektronik; Manufacturer Part Number: 744383430068; DC Resistance typ.: 65mOhm; DC Resistance max.: 84mOhm; Self Resonant Frequency: 130MHz; Saturation Current: 4.7A; ComponentLink1Description: Manufacturer; ComponentLink1URL: http://www.we-online.de; ComponentLink2Description: Datasheet; ComponentLink2URL: https://www.we-online.com/catalog/datasheet/744383430068.pdf; Mounting Technology: SMT; Operating Temperature: -40 to +125degC; Packaging: Tape and Reel; Size: 2010; Inductance: 0.68uH; Rated Current: 2A; Height: 1mm; Length: 2mm; Width: 1.6mm
footprint WE-MAPI_2010
pins: 1, 2

## 744383430082
designator L?, comment 0.82uH, 1.9A
WE-MAPI SMT Power Inductor, size 2010, 0.82uH, 1.9A; Manufacturer: Wurth Elektronik; Manufacturer Part Number: 744383430082; DC Resistance typ.: 71mOhm; DC Resistance max.: 92mOhm; Self Resonant Frequency: 125MHz; Saturation Current: 4.2A; ComponentLink1Description: Manufacturer; ComponentLink1URL: http://www.we-online.de; ComponentLink2Description: Datasheet; ComponentLink2URL: https://www.we-online.com/catalog/datasheet/744383430082.pdf; Mounting Technology: SMT; Operating Temperature: -40 to +125degC; Packaging: Tape and Reel; Size: 2010; Inductance: 0.82uH; Rated Current: 1.9A; Height: 1mm; Length: 2mm; Width: 1.6mm
footprint WE-MAPI_2010
pins: 1, 2

## 744383560033
designator L?, comment 0.33uH, 9.6A
WE-MAPI SMT Power Inductor, size 4020, 0.33uH, 9.6A; Manufacturer: Wurth Elektronik; Manufacturer Part Number: 744383560033; DC Resistance typ.: 6mOhm; DC Resistance max.: 7.2mOhm; Self Resonant Frequency: 115MHz; Saturation Current: 12.4A; ComponentLink1Description: Manufacturer; ComponentLink1URL: http://www.we-online.de; ComponentLink2Description: Datasheet; ComponentLink2URL: https://www.we-online.com/catalog/datasheet/744383560033.pdf; Mounting Technology: SMT; Operating Temperature: -40 to +125degC; Packaging: Tape and Reel; Size: 4020; Inductance: 0.33uH; Rated Current: 9.6A; Height: 2.1mm; Length: 4.1mm; Width: 4.1mm
footprint WE-MAPI_4020
pins: 1, 2

## 744383560033HT
designator L?, comment 0.33uH, 9.9A
WE-MAPI SMT Power Inductor, size 4020, 0.33uH, 9.9A; Manufacturer: Wurth Elektronik; Manufacturer Part Number: 744383560033HT; DC Resistance typ.: 6.5mOhm; DC Resistance max.: 7.5mOhm; Self Resonant Frequency: 98MHz; Saturation Current: 11A; ComponentLink1Description: Manufacturer; ComponentLink1URL: http://www.we-online.de; ComponentLink2Description: Datasheet; ComponentLink2URL: https://www.we-online.com/catalog/datasheet/744383560033HT.pdf; Mounting Technology: SMT; Operating Temperature: -55 to +150degC; Packaging: Tape and Reel; Size: 4020; Inductance: 0.33uH; Rated Current: 9.9A; Height: 2.1mm; Length: 4.1mm; Width: 4.1mm
footprint WE-MAPI_4020
pins: 1, 2

## 744383560047HT
designator L?, comment 0.47uH, 8.5A
WE-MAPI SMT Power Inductor, size 4020, 0.47uH, 8.5A; Manufacturer: Wurth Elektronik; Manufacturer Part Number: 744383560047HT; DC Resistance typ.: 7mOhm; DC Resistance max.: 8.1mOhm; Self Resonant Frequency: 83MHz; Saturation Current: 10A; ComponentLink1Description: Manufacturer; ComponentLink1URL: http://www.we-online.de; ComponentLink2Description: Datasheet; ComponentLink2URL: https://www.we-online.com/catalog/datasheet/744383560047HT.pdf; Mounting Technology: SMT; Operating Temperature: -55 to +150degC; Packaging: Tape and Reel; Size: 4020; Inductance: 0.47uH; Rated Current: 8.5A; Height: 2.1mm; Length: 4.1mm; Width: 4.1mm
footprint WE-MAPI_4020
pins: 1, 2

## 744383560056
designator L?, comment 0.56uH, 8.5A
WE-MAPI SMT Power Inductor, size 4020, 0.56uH, 8.5A; Manufacturer: Wurth Elektronik; Manufacturer Part Number: 744383560056; DC Resistance typ.: 7mOhm; DC Resistance max.: 8.4mOhm; Self Resonant Frequency: 85MHz; Saturation Current: 10.8A; ComponentLink1Description: Manufacturer; ComponentLink1URL: http://www.we-online.de; ComponentLink2Description: Datasheet; ComponentLink2URL: https://www.we-online.com/catalog/datasheet/744383560056.pdf; Mounting Technology: SMT; Operating Temperature: -40 to +125degC; Packaging: Tape and Reel; Size: 4020; Inductance: 0.56uH; Rated Current: 8.5A; Height: 2.1mm; Length: 4.1mm; Width: 4.1mm
footprint WE-MAPI_4020
pins: 1, 2

## 744383560056HT
designator L?, comment 0.56uH, 8.2A
WE-MAPI SMT Power Inductor, size 4020, 0.56uH, 8.2A; Manufacturer: Wurth Elektronik; Manufacturer Part Number: 744383560056HT; DC Resistance typ.: 7.5mOhm; DC Resistance max.: 8.6mOhm; Self Resonant Frequency: 72MHz; Saturation Current: 9.55A; ComponentLink1Description: Manufacturer; ComponentLink1URL: http://www.we-online.de; ComponentLink2Description: Datasheet; ComponentLink2URL: https://www.we-online.com/catalog/datasheet/744383560056HT.pdf; Mounting Technology: SMT; Operating Temperature: -55 to +150degC; Packaging: Tape and Reel; Size: 4020; Inductance: 0.56uH; Rated Current: 8.2A; Height: 2.1mm; Length: 4.1mm; Width: 4.1mm
footprint WE-MAPI_4020
pins: 1, 2

## 744383560068
designator L?, comment 0.68uH, 8.2A
WE-MAPI SMT Power Inductor, size 4020, 0.68uH, 8.2A; Manufacturer: Wurth Elektronik; Manufacturer Part Number: 744383560068; DC Resistance typ.: 7.5mOhm; DC Resistance max.: 9mOhm; Self Resonant Frequency: 75MHz; Saturation Current: 9.4A; ComponentLink1Description: Manufacturer; ComponentLink1URL: http://www.we-online.de; ComponentLink2Description: Datasheet; ComponentLink2URL: https://www.we-online.com/catalog/datasheet/744383560068.pdf; Mounting Technology: SMT; Operating Temperature: -40 to +125degC; Packaging: Tape and Reel; Size: 4020; Inductance: 0.68uH; Rated Current: 8.2A; Height: 2.1mm; Length: 4.1mm; Width: 4.1mm
footprint WE-MAPI_4020
pins: 1, 2

## 744383560068HT
designator L?, comment 0.68uH, 8.1A
WE-MAPI SMT Power Inductor, size 4020, 0.68uH, 8.1A; Manufacturer: Wurth Elektronik; Manufacturer Part Number: 744383560068HT; DC Resistance typ.: 8mOhm; DC Resistance max.: 9.2mOhm; Self Resonant Frequency: 67MHz; Saturation Current: 8.5A; ComponentLink1Description: Manufacturer; ComponentLink1URL: http://www.we-online.de; ComponentLink2Description: Datasheet; ComponentLink2URL: https://www.we-online.com/catalog/datasheet/744383560068HT.pdf; Mounting Technology: SMT; Operating Temperature: -55 to +150degC; Packaging: Tape and Reel; Size: 4020; Inductance: 0.68uH; Rated Current: 8.1A; Height: 2.1mm; Length: 4.1mm; Width: 4.1mm
footprint WE-MAPI_4020
pins: 1, 2

## 744383660082
designator L?, comment 0.82uH, 8.8A
WE-MAPI SMT Power Inductor, size 5020, 0.82uH, 8.8A; Manufacturer: Wurth Elektronik; Manufacturer Part Number: 744383660082; DC Resistance typ.: 8.3mOhm; DC Resistance max.: 9.6mOhm; Self Resonant Frequency: 53.5MHz; Saturation Current: 11A; ComponentLink1Description: Manufacturer; ComponentLink1URL: http://www.we-online.de; ComponentLink2Description: Datasheet; ComponentLink2URL: https://www.we-online.com/catalog/datasheet/744383660082.pdf; Mounting Technology: SMT; Operating Temperature: -40 to +125degC; Packaging: Tape and Reel; Size: 5020; Inductance: 0.82uH; Rated Current: 8.8A; Height: 2.1mm; Length: 5.4mm; Width: 5.4mm
footprint WE-MAPI_5020
pins: 1, 2